# Altium footprint library 32QN2_N.PcbLib: 1 footprints
Each footprint in its own frame and in the unit in brackets; x right, y up, seen from the top. Pads: shape width x height; smd on the part's side, far side on the other; paste and mask are expansions set on the pad; w line width, h text height; cw(c..) or ccw(c..) is an arc to the next point about the centre after c.
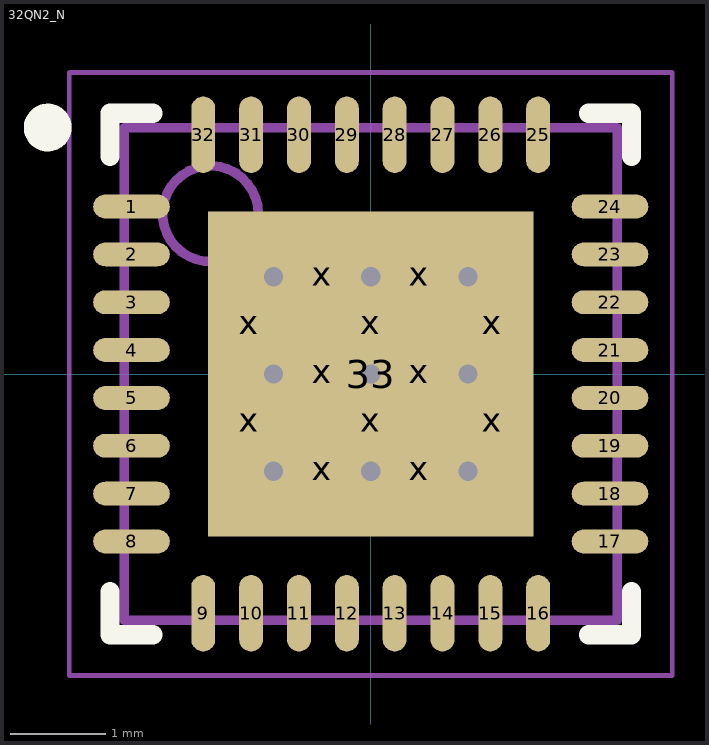
[diagram p0: the footprint, top view; thin cyan lines are the x and y axes]

## 32QN2_N [mm]
pads (45):
  oval 0.8x0.25 smd: 1(-2.5,1.75) 2(-2.5,1.25) 3(-2.5,0.75) 4(-2.5,0.25) 5(-2.5,-0.25) 6(-2.5,-0.75) 7(-2.5,-1.25) 8(-2.5,-1.75) 17(2.5,-1.75) 18(2.5,-1.25) 19(2.5,-0.75) 20(2.5,-0.25) 21(2.5,0.25) 22(2.5,0.75) 23(2.5,1.25) 24(2.5,1.75)
  oval 0.25x0.8 smd: 9(-1.75,-2.5) 10(-1.25,-2.5) 11(-0.75,-2.5) 12(-0.25,-2.5) 13(0.25,-2.5) 14(0.75,-2.5) 15(1.25,-2.5) 16(1.75,-2.5) 25(1.75,2.5) 26(1.25,2.5) 27(0.75,2.5) 28(0.25,2.5) 29(-0.25,2.5) 30(-0.75,2.5) 31(-1.25,2.5) 32(-1.75,2.5)
  rect 3.4x3.4 smd paste-5: 33(0,0)
  rect 0.457x0.457 on Top Paste: x(-1.27,-0.508) x(-1.27,0.508) x(-0.508,-1.016) x(-0.508,0) x(-0.508,1.016) x(0,-0.508) x(0,0.508) x(0.508,-1.016) x(0.508,0) x(0.508,1.016) x(1.27,-0.508) x(1.27,0.508)
via 0,0 diameter 0.505 hole 0.2
via -1.016,0 diameter 0.505 hole 0.2
via 1.016,0 diameter 0.505 hole 0.2
via 1.016,1.016 diameter 0.505 hole 0.2
via 0,1.016 diameter 0.505 hole 0.2
via -1.016,1.016 diameter 0.505 hole 0.2
via -1.016,-1.016 diameter 0.505 hole 0.2
via 0,-1.016 diameter 0.505 hole 0.2
via 1.016,-1.016 diameter 0.505 hole 0.2
Top Overlay:
  circle w0.25: c-3.375,2.575 r0.125
  lines w0.2: -2.725,-2.275 -2.725,-2.725 -2.275,-2.725 ; -2.725,2.275 -2.725,2.725 -2.275,2.725 ; 2.275,-2.725 2.725,-2.725 2.725,-2.275 ; 2.275,2.725 2.725,2.725 2.725,2.275
Mechanical 13:
  circle w0.1: c-1.675,1.675 r0.5
  lines w0.1: -2.575,-2.575 -2.575,2.575 2.575,2.575 2.575,-2.575 -2.575,-2.575
Mechanical 15:
  lines w0.05: -3.15,-3.15 -3.15,3.15 3.15,3.15 3.15,-3.15 -3.15,-3.15
  lines w0.1: -0.5,0 0.5,0 ; 0,-0.5 0,0.5
Mechanical 17:
  text "'.Designator'" at -2.794,-0.254 h0.64
Mechanical 19:
  text "'.Comment'" at -2.794,-0.254 h0.64
3D body "User Library-qfn32-5x5.step": height 0.8, standoff 0, extent -2.51,-2.51 2.51,2.51